# Altium schematic symbol library 61802525123.SchLib: 1 symbol
Pins are listed as number, name and electrical type; pins without a type are passive.

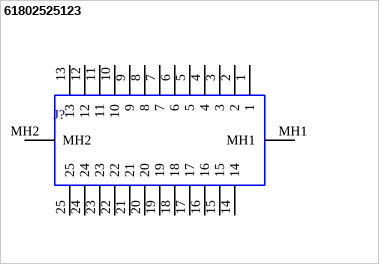
[diagram p0: symbol 61802525123]

## 61802525123
designator J?
Wurth Elektronik 618 Series 2.77 mm, 2.84 mm Pitch 25 Way Straight Through Hole Mount PCB D-sub Connector, Socket; Geometry.Height: 11.05mm; Manufacturer_Name: Wurth Elektronik; Manufacturer_Part_Number: 61802525123; Mouser Part Number: 710-61802525123; Mouser Price/Stock: https://www.mouser.co.uk/ProductDetail/Wurth-Elektronik/61802525123?qs=ZtY9WdtwX57NPP3pCOssIQ%3D%3D; Arrow Part Number: *; Arrow Price/Stock: *; Mouser Testing Part Number: *; Mouser Testing Price/Stock: *; Datasheet Link: https://componentsearchengine.com/Datasheets/1/61802525123.pdf
footprint 61802525123
pins: 1, 2, 3, 4, 5, 6, 7, 8, 9, 10, 11, 12, 13, 14, 15, 16, 17, 18, 19, 20, 21, 22, 23, 24, 25, MH1, MH2